# EAGLE library part PHA-1X07SG (library mylib)
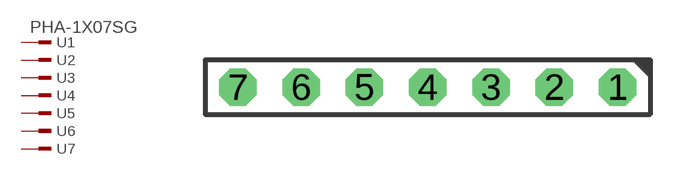
[diagram p119: symbol with the pads of PHA-1X07SG; footprint PHA-1X07SG]

Designator prefix -; gates 1=MPINV 2=MPIN 3=MPIN 4=MPIN 5=MPIN 6=MPIN 7=MPIN

## PHA-1X07SG (AKIZUKI: C-04393)  [PHA-1X07SG]
1  1:1  pas
2  2:1  pas
3  3:1  pas
4  4:1  pas
5  5:1  pas
6  6:1  pas
7  7:1  pas

## Footprint PHA-1X07SG (pad centres in mm)
drill 0.8 pad 1.5 octagon: 1 7.62,0; 2 5.08,0; 3 2.54,0; 4 0,0; 5 -2.54,0; 6 -5.08,0; 7 -7.62,0